# Altium schematic symbol library Schlib.SchLib: 2 symbols
Pins are listed as number, name and electrical type; pins without a type are passive.

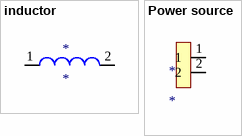
[diagram p0: symbols inductor to Power source]

## inductor
designator *
footprint 2x1 output
pins: 1, 2

## Power source
designator *
footprint 2x1 output
pins: 1, 2